# EAGLE library part B9B-XH-A(LF)(SN) (library Headers)
CONN HEADER VERT 9POS 2.5MM Manufacturer's datasheet <http://www.jst-mfg.com/product/pdf/eng/eXH.pdf>
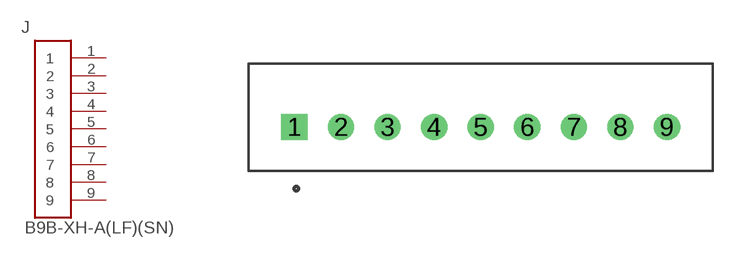
[diagram p30: symbol with the pads of B9B-XH-A(LF)(SN); footprint B9B-XH-A(LF)(SN)]

Designator prefix J

## B9B-XH-A(LF)(SN) (CREATED_BY: PCBLayout.com; DIGIKEY_PARTNO: 455-2244-ND; MANUFACTURER: JST Sales America Inc.; MPN: B9B-XH-A(LF)(SN))  [B9B-XH-A(LF)(SN)]
1  1  pas
2  2  pas
3  3  pas
4  4  pas
5  5  pas
6  6  pas
7  7  pas
8  8  pas
9  9  pas

## Footprint B9B-XH-A(LF)(SN) (pad centres in mm)
drill 0.9 square: 1 -10,0
drill 0.9: 2 -7.5,0; 3 -5,0; 4 -2.5,0; 5 0,0; 6 2.5,0; 7 5,0; 8 7.5,0; 9 10,0